# Altium footprint library _ROBOT.PcbLib: 77 footprints (part 5 of 5)
Each footprint in its own frame and in the unit in brackets; x right, y up, seen from the top. Pads: shape width x height; smd on the part's side, far side on the other; paste and mask are expansions set on the pad; w line width, h text height; cw(c..) or ccw(c..) is an arc to the next point about the centre after c.
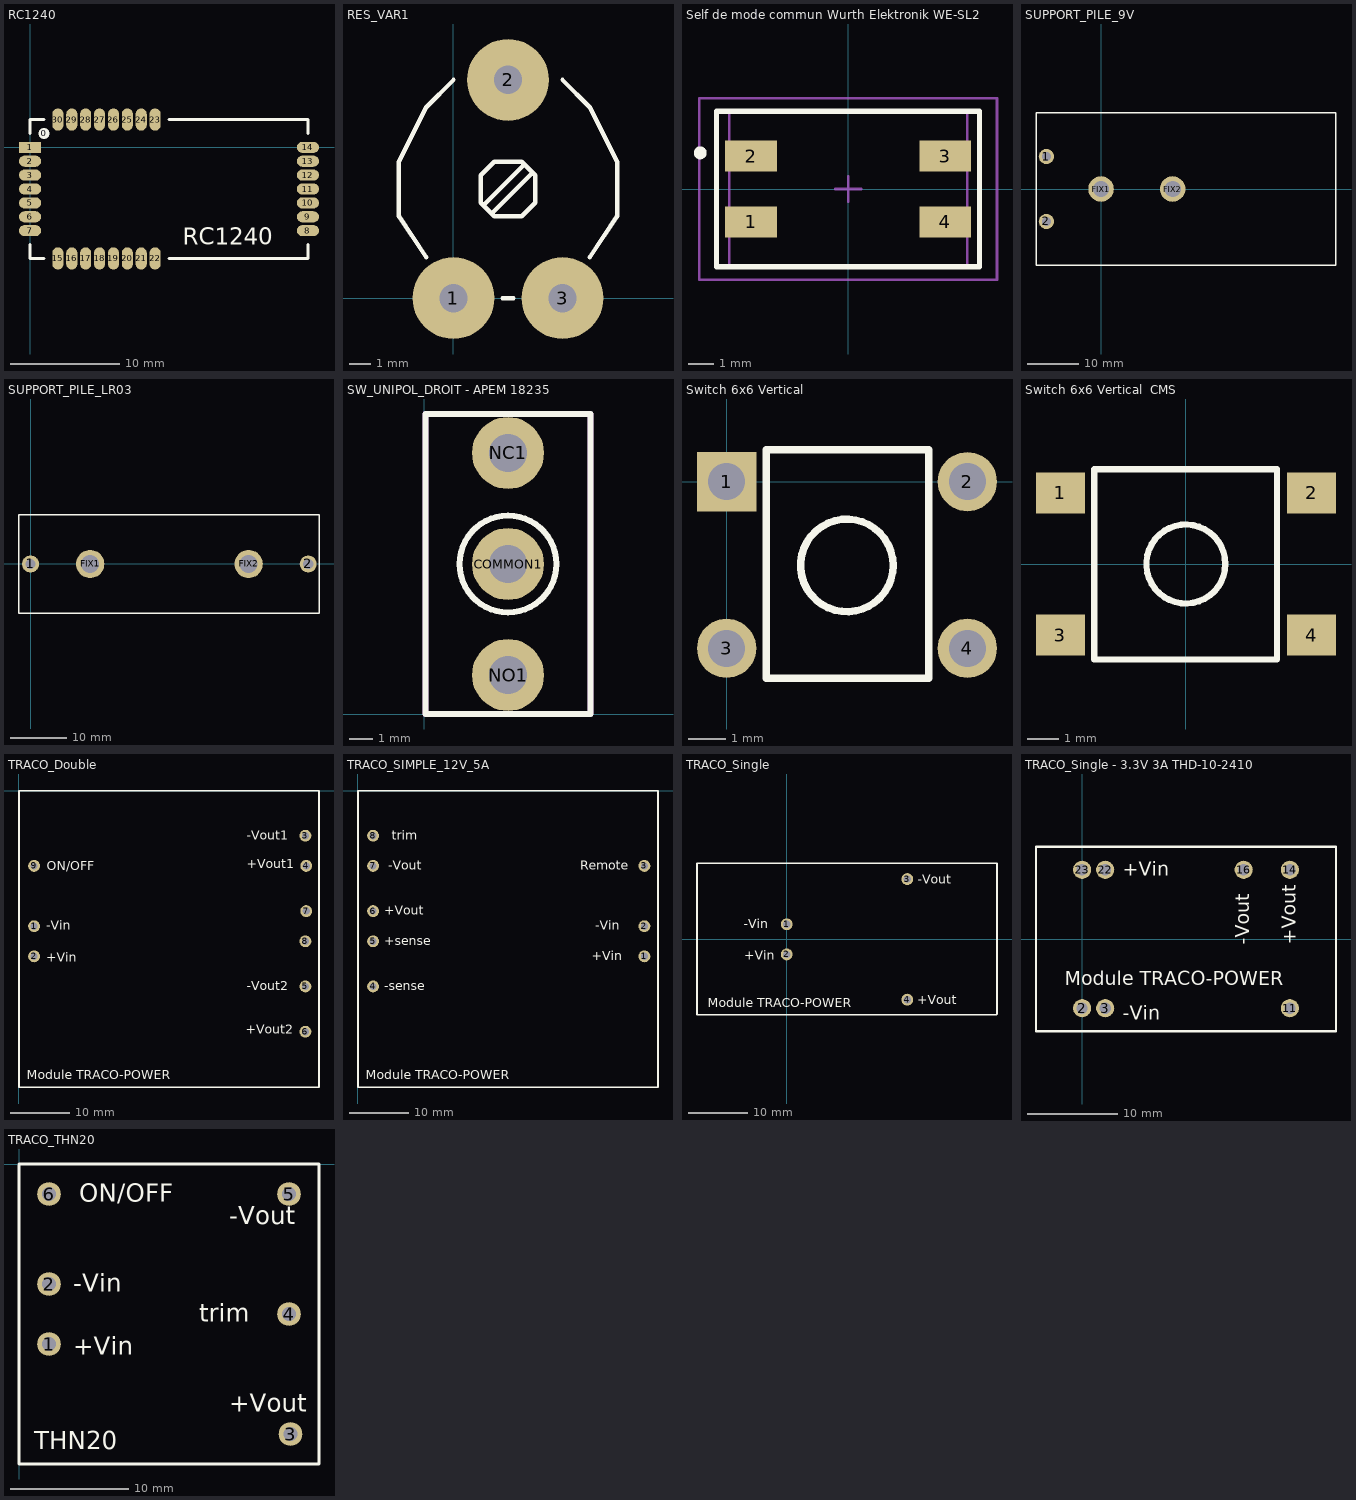
[diagram p4: the footprints below, top view; thin cyan lines are the x and y axes]

## RC1240 [mil]
pads (31):
  round 40 on Top Overlay: 0(50,50)
  rect 80x40 smd: 1(0,0)
  oval 80x40 smd: 2(0,-50) 3(0,-100) 4(0,-150) 5(0,-200) 6(0,-250) 7(0,-300) 8(1000,-300) 9(1000,-250) 10(1000,-200) 11(1000,-150) 12(1000,-100) 13(1000,-50) 14(1000,0)
  oval 40x80 smd: 15(100,-400) 16(150,-400) 17(200,-400) 18(250,-400) 19(300,-400) 20(350,-400) 21(400,-400) 22(450,-400) 23(450,100) 24(400,100) 25(350,100) 26(300,100) 27(250,100) 28(200,100) 29(150,100) 30(100,100)
Top Overlay:
  lines w10: 0,-350 0,-400 50,-400 ; 0,50 0,100 50,100 ; 500,-400 1000,-400 1000,-350 ; 500,100 1000,100 1000,50
  text "RC1240" at 550,-350 h60

## RES_VAR1 [mil] "Trimmer Monotour; 10.16mmx5.08mm"
height 236.22
pads (3):
  round 150 hole 52: 1(0,0) 2(100,400) 3(200,0)
Top Overlay:
  lines w8: -50,75 -100,150 -100,250 -50,350 0,400 ; 55,170 130,245 ; 70,155 145,230 ; 90,0 110,0 ; 200,400 250,350 300,250 300,150 250,75 ; 50,175 50,225 75,250 125,250 150,225 150,175 125,150 75,150 50,175
3D body: height 246.46, standoff -137.8, extent -102.36,-9.06 303.15,408.27

## Self de mode commun Wurth Elektronik WE-SL2 [mm] "Self de mode commun Wurth Elektronik WE-SL2"
height 5
pads (4):
  rect 2x1.2 smd: 1(-3.75,-1.27) 2(-3.75,1.27) 3(3.75,1.27) 4(3.75,-1.27)
Top Overlay:
  circle w0.25: c-5.713,1.397 r0.125
  lines w0.2: -5.08,-3 -5.08,3 5.08,3 5.08,-3 -5.08,-3
Mechanical 13:
  lines w0.1: -4.6,-3 -4.6,3 4.6,3 4.6,-3 -4.6,-3
Mechanical 15:
  lines w0.1: -0.5,0 0.5,0 ; 0,-0.5 0,0.5 ; -5.75,-3.5 -5.75,3.5 5.75,3.5 5.75,-3.5 -5.75,-3.5
3D body: height 5, standoff 0, extent -4.6,-3 4.6,3

## SUPPORT_PILE_9V [mm] "AA SIZE BATTERY HOLDER; Open style; Pin Spacing Fix=14mm; Pin Spacing=12.7mm"
height 25.2
pads (4):
  round 3 hole 1.8: 1(-10.7,6.35) 2(-10.7,-6.35)
  round 5 hole 3.2: FIX1(0,0) FIX2(14,0)
Top Overlay:
  lines w0.254: 45.942,-14.9 -12.732,-14.9 -12.732,14.9 45.968,14.9 45.968,-14.9

## SUPPORT_PILE_LR03 [mm] "AAA SIZE BATTERY HOLDER; Open style; Pin Spacing Fix=27.9mm; Pin Spacing=48.9mm"
height 17.1
pads (4):
  round 3 hole 1.8: 1(0,0) 2(48.9,0)
  round 5 hole 3.2: FIX1(10.5,0) FIX2(38.4,0)
Top Overlay:
  lines w0.254: -2.032,-8.65 50.8,-8.65 50.8,8.65 -2.032,8.65 -2.032,-8.636

## SW_UNIPOL_DROIT - APEM 18235 [mil]
pads (3):
  round 120 hole 63: COMMON1(140,250) NC1(140,435.04) NO1(140,64.96)
Top Overlay:
  circle w10: c140,250 r80.71
  lines w10: 2.2,0 2.2,500 277.8,500 277.8,0 2.2,0
Mechanical 2:
  lines w10: 2.2,0 2.2,500 277.8,500 277.8,0 2.2,0
3D body: height 449.12, standoff -167.32, extent -10,3.94 285.28,496.06

## Switch 6x6 Vertical [mm]
height 5
pads (4):
  rect 1.6x1.6 hole 1: 1(0,0)
  round 1.6 hole 1: 2(6.5,0) 3(0,-4.5) 4(6.5,-4.5)
Top Overlay:
  circle w0.2: c3.246,-2.261 r1.25
  lines w0.2: 1.067,-5.309 5.461,-5.309 5.461,0.864 1.067,0.864 1.067,-5.309
3D body: height 7, standoff -3.5, extent -0.711,-5.335 7.189,0.865

## Switch 6x6 Vertical  CMS [mm] "Switch tactil 6x6 Vertical  CMS"
height 3.6
pads (4):
  rect 1.55x1.3 smd: 1(-3.975,2.25) 2(3.975,2.25) 3(-3.975,-2.25) 4(3.975,-2.25)
Top Overlay:
  circle w0.2: c-0.005,0 r1.25
  lines w0.2: -2.908,-3.023 2.883,-3.023 2.883,2.997 -2.908,2.997 -2.908,-3.023
3D body: height 5, standoff 0, extent -4.491,-3.011 4.509,2.989

## TRACO_Double [mm] "DoubleTRACO-POWER module"
height 15
pads (9):
  round 2 hole 1.219: 1(2.54,-22.86) 2(2.54,-27.94) 3(48.26,-7.62) 4(48.387,-12.7) 5(48.26,-33.02) 6(48.26,-40.64) 7(48.387,-20.32) 8(48.26,-25.4) 9(2.54,-12.7)
Top Overlay:
  lines w0.254: 0,-0.127 0,-50.038 50.546,-50.038 50.546,0 0,0
  text "+Vout2" at 38.227,-41.021 h1.52
  text "-Vout2" at 38.354,-33.655 h1.52
  text "ON/OFF" at 4.699,-13.462 h1.52
  text "Module TRACO-POWER" at 1.27,-48.641 h1.52
  text "-Vin" at 4.572,-23.495 h1.52
  text "+Vin" at 4.572,-28.829 h1.52
  text "-Vout1" at 38.354,-8.255 h1.52
  text "+Vout1" at 38.354,-13.081 h1.52
3D body: height 10, standoff 0, extent -0.127,-50.038 50.673,0.127

## TRACO_SIMPLE_12V_5A [mm] "DoubleTRACO-POWER module"
height 15
pads (8):
  round 2 hole 1.219: 1(48.26,-27.94) 2(48.26,-22.86) 3(48.26,-12.7) 4(2.54,-33.02) 5(2.54,-25.4) 6(2.54,-20.32) 7(2.54,-12.7) 8(2.54,-7.62)
Top Overlay:
  lines w0.254: 0,-0.127 0,-50.038 50.546,-50.038 50.546,0 0,0
  text "-Vout" at 5.08,-13.335 h1.52
  text "+sense" at 4.445,-26.035 h1.52
  text "+Vout" at 4.445,-20.955 h1.52
  text "-sense" at 4.445,-33.655 h1.52
  text "trim" at 5.715,-8.255 h1.52
  text "Module TRACO-POWER" at 1.27,-48.641 h1.52
  text "-Vin" at 40.005,-23.495 h1.52
  text "+Vin" at 39.37,-28.575 h1.52
  text "Remote" at 37.465,-13.335 h1.52
3D body: height 10, standoff 0, extent -0.127,-50.038 50.673,0.127

## TRACO_Single [mm] "Single TRACO-POWER module"
height 15
pads (4):
  round 2 hole 1.219: 1(0,2.54) 2(0,-2.54) 3(20.32,10.16) 4(20.32,-10.16)
Top Overlay:
  lines w0.254: -15.113,12.7 -15.113,-12.7 35.306,-12.7 35.433,-12.573 35.433,12.827 -15.113,12.827
  text "Module TRACO-POWER" at -13.335,-11.43 h1.52
  text "-Vin" at -7.239,1.905 h1.52
  text "+Vin" at -7.112,-3.429 h1.52
  text "-Vout" at 22.098,9.398 h1.52
  text "+Vout" at 21.971,-10.922 h1.52
3D body: height 10, standoff 0, extent -15.24,-12.827 35.56,12.954

## TRACO_Single - 3.3V 3A THD-10-2410 [mm] "Single TRACO-POWER module"
height 15
pads (7):
  round 2 hole 1.219: 2(0,-7.62) 3(2.54,-7.62) 11(22.86,-7.62) 14(22.86,7.62) 16(17.78,7.62) 22(2.54,7.62) 23(0,7.62)
Top Overlay:
  lines w0.254: -5.08,-10.16 -5.08,10.16 27.94,10.16 27.94,-10.16 -5.08,-10.16
  text "+Vout" at 23.495,-0.635 h1.52
  text "-Vout" at 18.415,-0.635 h1.52
  text "+Vin" at 4.445,6.985 h1.52
  text "-Vin" at 4.445,-8.89 h1.52
  text "Module TRACO-POWER" at -1.905,-5.08 h1.52
3D body: height 10, standoff 0, extent -15.24,-12.827 35.56,12.954

## TRACO_THN20 [mm] "THN20"
height 15
pads (6):
  round 2 hole 1.219: 1(2.54,-15.24) 2(2.54,-10.16) 3(22.987,-22.86) 4(22.86,-12.7) 5(22.86,-2.54) 6(2.54,-2.54)
Top Overlay:
  lines w0.254: 0,-0.127 0,-25.4 25.4,-25.4 25.4,0 0,0
  text "trim" at 15.24,-13.335 h1.52
  text "ON/OFF" at 5.08,-3.175 h1.52
  text "THN20" at 1.27,-24.13 h1.52
  text "-Vin" at 4.572,-10.795 h1.52
  text "+Vin" at 4.572,-16.129 h1.52
  text "-Vout" at 17.78,-5.08 h1.52
  text "+Vout" at 17.78,-20.955 h1.52
3D body: height 9.91, standoff 0, extent -0.06,-25.429 25.413,0